# Altium footprint library DSC60XX.PcbLib: 1 footprints
Each footprint in its own frame and in the unit in brackets; x right, y up, seen from the top. Pads: shape width x height; smd on the part's side, far side on the other; paste and mask are expansions set on the pad; w line width, h text height; cw(c..) or ccw(c..) is an arc to the next point about the centre after c.
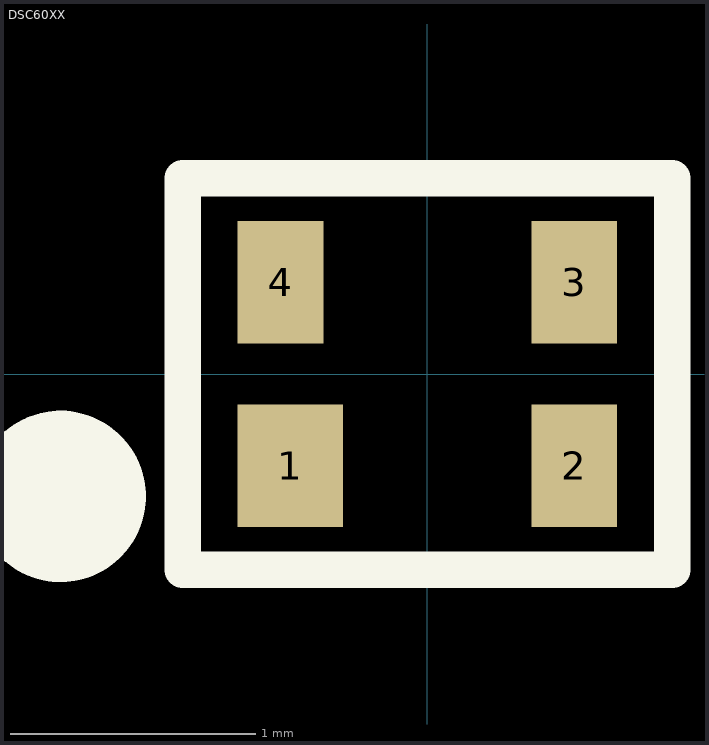
[diagram p0: the footprint, top view; thin cyan lines are the x and y axes]

## DSC60XX [mm]
pads (4):
  rect 0.43x0.5 smd: 1(-0.56,-0.375)
  rect 0.35x0.5 smd: 2(0.6,-0.375) 3(0.6,0.375) 4(-0.6,0.375)
Top Overlay:
  circle w0.5: c-1.5,-0.5 r0.1
  lines w0.15: -1,-0.8 1,-0.8 1,0.8 -1,0.8 -1,-0.8